# EAGLE library part PIC24HJ12GP201 (library scott_eagle)
PIC24HJ12GP201 (manufactured by Microchip Technology Inc.)
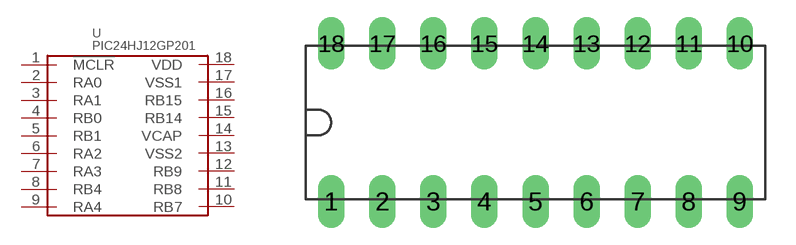
[diagram p3: symbol with the pads of 18-PDIP; footprint 18-PDIP]

Designator prefix -

## PIC24HJ12GP201  [18-PDIP]
1  !MCLR
2  RA0
3  RA1
4  RB0
5  RB1
6  RA2
7  RA3
8  RB4
9  RA4
10  RB7
11  RB8
12  RB9
13  VSS2  pwr
14  VCAP  pwr
15  RB14
16  RB15
17  VSS1  pwr
18  VDD  pwr

## Footprint 18-PDIP (pad centres in mm)
18-PDIP (plastic) DIP package variant of PIC24HJ12GP201
drill 0.8 long: 1 -10.16,-3.937; 2 -7.62,-3.937; 3 -5.08,-3.937; 4 -2.54,-3.937; 5 0,-3.937; 6 2.54,-3.937; 7 5.08,-3.937; 8 7.62,-3.937; 9 10.16,-3.937; 10 10.16,3.937; 11 7.62,3.937; 12 5.08,3.937; 13 2.54,3.937; 14 0,3.937; 15 -2.54,3.937; 16 -5.08,3.937; 17 -7.62,3.937; 18 -10.16,3.937